# Altium footprint library SOP28P127_1770X1045X255L80X40N.PcbLib: 1 footprints
Each footprint in its own frame and in the unit in brackets; x right, y up, seen from the top. Pads: shape width x height; smd on the part's side, far side on the other; paste and mask are expansions set on the pad; w line width, h text height; cw(c..) or ccw(c..) is an arc to the next point about the centre after c.
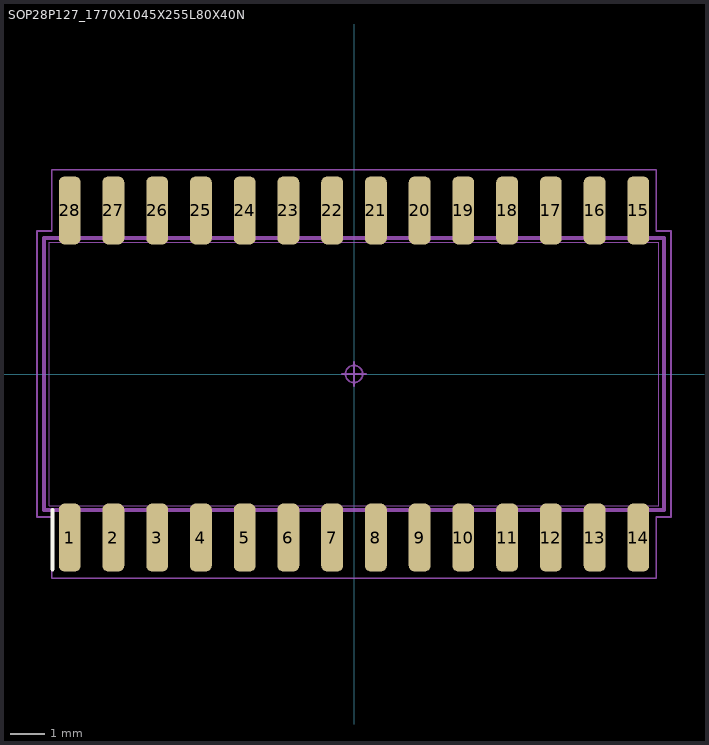
[diagram p0: the footprint, top view; thin cyan lines are the x and y axes]

## SOP28P127_1770X1045X255L80X40N [mm] "Small Outline Pkg (SOIC, SOP), 1.27 mm pitch; 28 pin, 17.70 mm L X 7.65 mm W X 2.55 mm H Body"
height 2.55
pads (28):
  rrect50% 0.632x1.965 smd: 1(-8.255,-4.748) 2(-6.985,-4.748) 3(-5.715,-4.748) 4(-4.445,-4.748) 5(-3.175,-4.748) 6(-1.905,-4.748) 7(-0.635,-4.748) 8(0.635,-4.748) 9(1.905,-4.748) 10(3.175,-4.748) 11(4.445,-4.748) 12(5.715,-4.748) 13(6.985,-4.748) 14(8.255,-4.748) 15(8.255,4.748) 16(6.985,4.748) 17(5.715,4.748) 18(4.445,4.748) 19(3.175,4.748) 20(1.905,4.748) 21(0.635,4.748) 22(-0.635,4.748) 23(-1.905,4.748) 24(-3.175,4.748) 25(-4.445,4.748) 26(-5.715,4.748) 27(-6.985,4.748) 28(-8.255,4.748)
Top Overlay:
  lines w0.12: -8.751,-5.67 -8.751,-3.95
Mechanical 3:
  lines w0.12: -9,-3.95 9,-3.95 9,3.95 -9,3.95 -9,-3.95
Mechanical 5:
  lines w0.025: -8.85,-3.825 8.85,-3.825 8.85,3.825 -8.85,3.825 -8.85,-3.825 ; -8.455,-5.225 -8.455,-4.425 -8.055,-4.425 -8.055,-5.225 -8.455,-5.225 ; -8.455,4.425 -8.455,5.225 -8.055,5.225 -8.055,4.425 -8.455,4.425 ; -7.185,-5.225 -7.185,-4.425 -6.785,-4.425 -6.785,-5.225 -7.185,-5.225 ; -7.185,4.425 -7.185,5.225 -6.785,5.225 -6.785,4.425 -7.185,4.425 ; -5.915,-5.225 -5.915,-4.425 -5.515,-4.425 -5.515,-5.225 -5.915,-5.225 ; -5.915,4.425 -5.915,5.225 -5.515,5.225 -5.515,4.425 -5.915,4.425 ; -4.645,-5.225 -4.645,-4.425 -4.245,-4.425 -4.245,-5.225 -4.645,-5.225 ; -4.645,4.425 -4.645,5.225 -4.245,5.225 -4.245,4.425 -4.645,4.425 ; -3.375,-5.225 -3.375,-4.425 -2.975,-4.425 -2.975,-5.225 -3.375,-5.225 ; -3.375,4.425 -3.375,5.225 -2.975,5.225 -2.975,4.425 -3.375,4.425 ; -2.105,-5.225 -2.105,-4.425 -1.705,-4.425 -1.705,-5.225 -2.105,-5.225 ; -2.105,4.425 -2.105,5.225 -1.705,5.225 -1.705,4.425 -2.105,4.425 ; -0.835,-5.225 -0.835,-4.425 -0.435,-4.425 -0.435,-5.225 -0.835,-5.225 ; -0.835,4.425 -0.835,5.225 -0.435,5.225 -0.435,4.425 -0.835,4.425 ; 0.435,-5.225 0.435,-4.425 0.835,-4.425 0.835,-5.225 0.435,-5.225 ; 0.435,4.425 0.435,5.225 0.835,5.225 0.835,4.425 0.435,4.425 ; 1.705,-5.225 1.705,-4.425 2.105,-4.425 2.105,-5.225 1.705,-5.225 ; 1.705,4.425 1.705,5.225 2.105,5.225 2.105,4.425 1.705,4.425 ; 2.975,-5.225 2.975,-4.425 3.375,-4.425 3.375,-5.225 2.975,-5.225 ; 2.975,4.425 2.975,5.225 3.375,5.225 3.375,4.425 2.975,4.425 ; 4.245,-5.225 4.245,-4.425 4.645,-4.425 4.645,-5.225 4.245,-5.225 ; 4.245,4.425 4.245,5.225 4.645,5.225 4.645,4.425 4.245,4.425 ; 5.515,-5.225 5.515,-4.425 5.915,-4.425 5.915,-5.225 5.515,-5.225 ; 5.515,4.425 5.515,5.225 5.915,5.225 5.915,4.425 5.515,4.425 ; 6.785,-5.225 6.785,-4.425 7.185,-4.425 7.185,-5.225 6.785,-5.225 ; 6.785,4.425 6.785,5.225 7.185,5.225 7.185,4.425 6.785,4.425 ; 8.055,-5.225 8.055,-4.425 8.455,-4.425 8.455,-5.225 8.055,-5.225 ; 8.055,4.425 8.055,5.225 8.455,5.225 8.455,4.425 8.055,4.425
Mechanical 7:
  circle w0.05: c0,0 r0.25
  lines w0.05: -0.35,0 0.35,0 ; 0,-0.35 0,0.35 ; -9.2,-4.15 -8.771,-4.15 -8.771,-5.93 8.771,-5.93 8.771,-4.15 9.2,-4.15 9.2,4.15 8.771,4.15 8.771,5.93 -8.771,5.93 -8.771,4.15 -9.2,4.15 -9.2,-4.15
Mechanical 9:
  text "'.Designator'" at -5.817,-0.271 h1.02
3D body "SOP28P127_1770X1045X255L80X40.STEP": height 2.55, standoff 0, extent -8.85,-5.225 8.85,5.225
3D body: height 17.4, standoff 0, extent -9.2,-5.93 9.2,5.93